# Altium footprint library WST-1205S.PcbLib: 1 footprints
Each footprint in its own frame and in the unit in brackets; x right, y up, seen from the top. Pads: shape width x height; smd on the part's side, far side on the other; paste and mask are expansions set on the pad; w line width, h text height; cw(c..) or ccw(c..) is an arc to the next point about the centre after c.
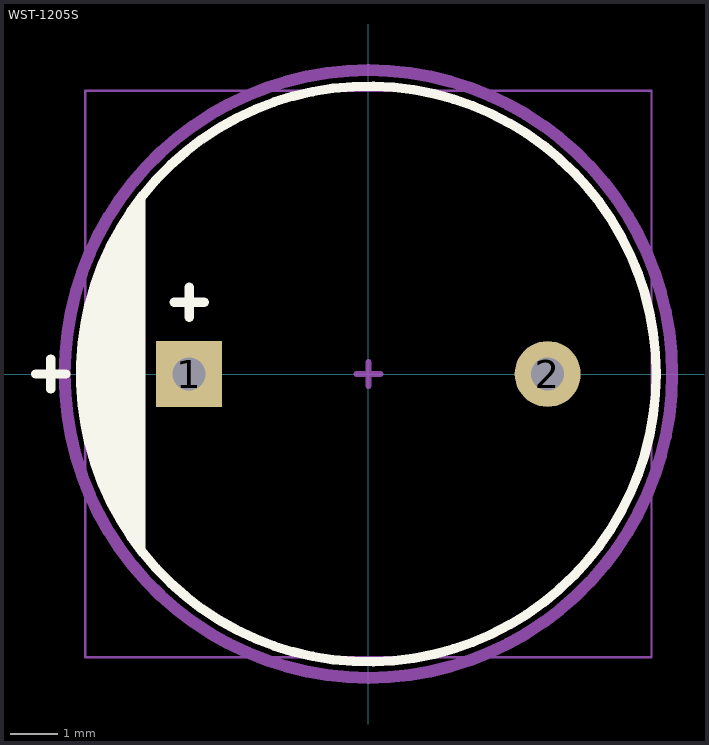
[diagram p0: the footprint, top view; thin cyan lines are the x and y axes]

## WST-1205S [mm]
pads (2):
  rect 1.4x1.4 hole 0.7: 1(-3.8,0)
  round 1.4 hole 0.7: 2(3.8,0)
Top Overlay:
  circle w0.2: c0,0 r6.1
  region: -4.826,3.683 -5.207,3.302 -5.334,2.921 -5.461,2.667 -5.715,2.286 -5.842,1.905 -5.969,1.651 -5.969,1.016 -6.096,0.889 -6.096,-0.762 -5.969,-0.889 -5.969,-1.524 -5.842,-1.651 -5.715,-2.159 -5.461,-2.54 -5.461,-2.921 -4.953,-3.429 -4.953,-3.556 -4.826,-3.683
  lines w0.2: -7.048,0 -6.413,0 ; -6.731,-0.318 -6.731,0.318 ; -4.826,-3.683 -4.826,3.683 ; -4.118,1.524 -3.483,1.524 ; -3.8,1.206 -3.8,1.841
Top Assembly:
  circle w0.254: c0,0 r6.438
Top Courtyard:
  lines w0.051: -6,-6 -6,6 6,6 6,-6 -6,-6
  lines w0.127: -0.254,0 0.254,0 ; 0,-0.254 0,0.254
3D body "cem-1212c.stp": height 9.5, standoff -4.5, extent -6,-6 6,6